# Altium integrated library MFW6R.IntLib: 1 symbol
Pins are listed as number, name and electrical type; pins without a type are passive.

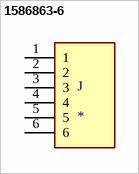
[diagram p0: symbol 1586863-6]

## 1586863-6
designator J
Conn Power HDR 6 POS 4.2mm Solder RA Thru-Hole 6 Terminal 1 Port Tray; MF: TE Connectivity; MP: 1586863-6; EU_RoHS_Compliance: Compliant; SnapEDA_Link: https://www.snapeda.com/parts/1586863-6/TE%20Connectivity%20AMP%20Connectors/view-part/1436757/?ref=snap; Price: None; Package: None; TE_purchase_URL: https://www.te.com/usa-en/product-1586863-6.html?te_bu=Cor&te_type=disp&te_campaign=seda_glo_cor-seda-global-disp-prtnr-fy19-seda-model-bom-cta_sma-317_1&elqCampaignId=32493; Value: *; Availability: Unavailable
footprint TE_1586863-6
pins: 1, 2, 3, 4, 5, 6